# EAGLE library part A3976 (library allegro)
Dual Full-Bridge Protected Motor Driver Drives both windings of a bipolar stepper motor or bidirectionally controls two DC motors. Both H-bridges are capable of continuous output currents of up to +/- 500mA and operating voltages up to 27V. Temp range -40 to 125 C
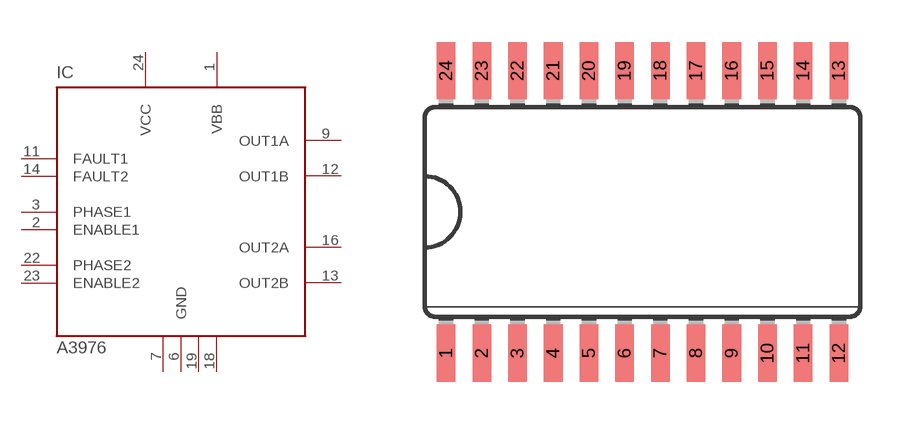
[diagram p16: symbol with the pads of SO24L; footprint SO24L]

Designator prefix IC

## A3976KLB  [SO24L]
1  VBB  pwr
2  ENABLE1  in
3  PHASE1  in
6  GND  pwr
7  GND2  pwr
9  OUT1A  out
11  FAULT1  out
12  OUT1B  out
13  OUT2B  out
14  FAULT2  out
16  OUT2A  out
18  GND3  pwr
19  GND4  pwr
22  PHASE2  in
23  ENABLE2  in
24  VCC  pwr

## Footprint SO24L (pad centres in mm)
24-pin Small Outline Package, wide
smd 0.66 x 2.032: 1 -6.985,-5.029; 2 -5.715,-5.029; 3 -4.445,-5.029; 4 -3.175,-5.029; 5 -1.905,-5.029; 6 -0.635,-5.029; 7 0.635,-5.029; 8 1.905,-5.029; 9 3.175,-5.029; 10 4.445,-5.029; 11 5.715,-5.029; 12 6.985,-5.029; 13 6.985,5.029; 14 5.715,5.029; 15 4.445,5.029; 16 3.175,5.029; 17 1.905,5.029; 18 0.635,5.029; 19 -0.635,5.029; 20 -1.905,5.029; 21 -3.175,5.029; 22 -4.445,5.029; 23 -5.715,5.029; 24 -6.985,5.029